# Altium schematic symbol library ATK-UART2ETH2V2.SCHLIB: 1 symbol
Pins are listed as number, name and electrical type; pins without a type are passive.

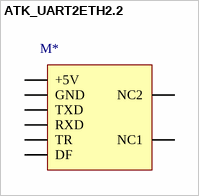
[diagram p0: symbol ATK_UART2ETH2.2]

## ATK_UART2ETH2.2
designator M*  (value not drawn)
ATK-UART2ETH2V2
footprint ATK-uart2Eth2v2
pins: 1 +5V, 2 GND, 3 TXD, 4 RXD, 5 TR, 6 DF, 7 NC1, 8 NC2